# Altium footprint library 14.Pads.PcbLib: 28 footprints (part 2 of 2)
Each footprint in its own frame and in the unit in brackets; x right, y up, seen from the top. Pads: shape width x height; smd on the part's side, far side on the other; paste and mask are expansions set on the pad; w line width, h text height; cw(c..) or ccw(c..) is an arc to the next point about the centre after c.
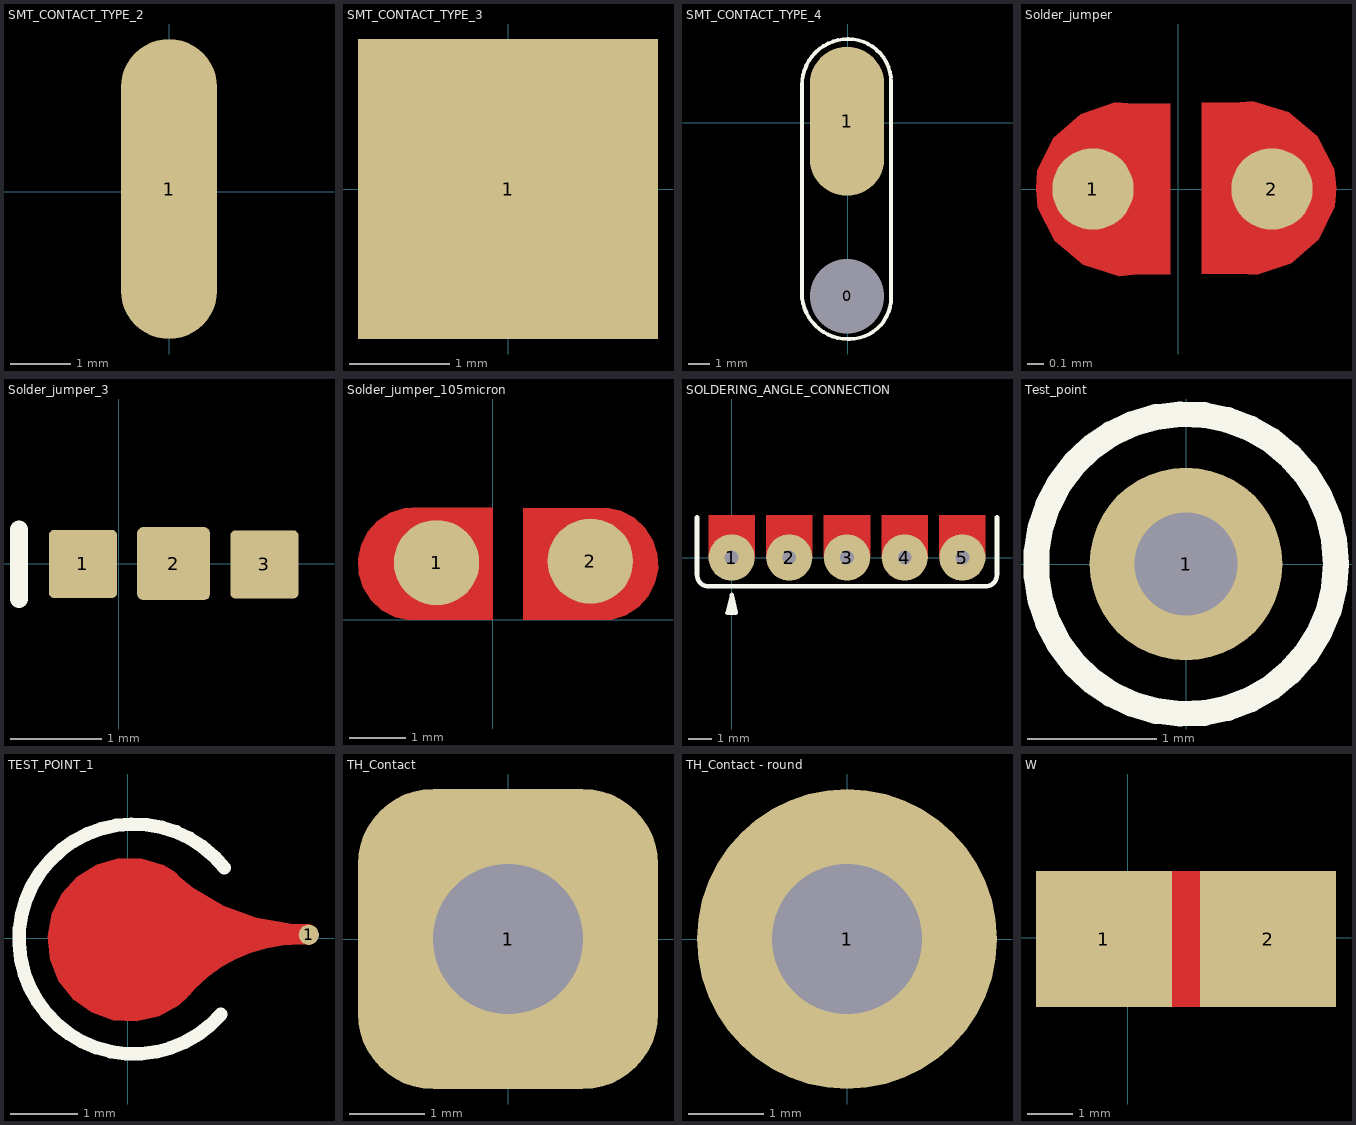
[diagram p1: the footprints below, top view; thin cyan lines are the x and y axes]

## SMT_CONTACT_TYPE_2 [mm]
pads (1):
  oval 1.6x5 smd: 1(0,0.05)

## SMT_CONTACT_TYPE_3 [mm]
pads (1):
  rect 3x3 smd: 1(0,0)

## SMT_CONTACT_TYPE_4 [mm]
pads (2):
  round 0.9 hole 3.5: 0(-0.043,-8.152)
  oval 3.5x7 smd: 1(-0.043,0.071)
Top Overlay:
  lines w0.18: -2.159,-8.255 -2.159,1.769 cw(c0.009,1.769) 0.009,3.937 cw(c0.009,1.914) 2.032,1.914 2.032,-8.214 cw(c0.086,-8.214) 0.086,-10.16 -0.009,-10.16 cw(c-0.009,-8.01) -2.159,-8.01

## Solder_jumper [mm]
pads (2):
  rrect100% 0.5x0.5 smd: 1(-0.525,0) 2(0.575,0)
Top Layer:
  region: -0.05,0.525 -0.275,0.525 -0.387,0.532 -0.599,0.461 -0.768,0.313 -0.868,0.112 -0.875,0 -0.865,-0.114 -0.759,-0.318 -0.583,-0.466 -0.364,-0.535 -0.25,-0.525 -0.05,-0.525
  region: 0.144,-0.519 0.369,-0.519 0.481,-0.527 0.693,-0.455 0.862,-0.307 0.961,-0.106 0.969,0.006 0.959,0.12 0.853,0.324 0.677,0.471 0.458,0.541 0.344,0.531 0.144,0.531
Top Solder:
  rectangle: -0.125,-0.625 0.225,0.625

## Solder_jumper_3 [mm]
pads (3):
  rrect15% 0.75x0.75 smd mask+0: 1(-0.397,-0.004) 3(1.599,-0.009)
  rrect15% 0.8x0.8 smd mask+0: 2(0.6,0)
Top Overlay:
  lines w0.2: -1.1,-0.387 -1.1,0.375
Top Solder:
  region: -0.79,-0.61 -0.832,-0.61 -0.909,-0.578 -0.968,-0.519 -1,-0.442 -1,-0.4 -1,0.375 -1.002,0.417 -0.975,0.497 -0.918,0.561 -0.842,0.598 -0.8,0.6 1.975,0.6 2.02,0.6 2.102,0.566 2.166,0.502 2.2,0.42 2.2,0.375 2.2,-0.411 2.2,-0.451 2.169,-0.524 2.113,-0.58 2.039,-0.61 2,-0.61
  lines w0.01: -1,-0.4 ccw(c-0.79,-0.4) -0.79,-0.61 -0.775,-0.61 2,-0.61 ccw(c2,-0.41) 2.2,-0.41 2.2,0.375 ccw(c1.975,0.375) 1.975,0.6 -0.775,0.575 -0.8,0.575 ccw(c-0.8,0.375) -1,0.375 -1,-0.4

## Solder_jumper_105micron [mil]
pads (2):
  round 60 smd: 1(-39.37,40.35) 2(68.76,41.34)
Top Layer:
  region: 21.65,0 78.47,0 83.65,0.23 93.55,3.36 102.3,8.94 109.3,16.59 114.09,25.8 116.33,35.93 115.87,46.3 112.74,56.19 107.16,64.94 99.51,71.94 90.3,76.73 80.17,78.97 74.98,78.74 21.65,78.74
  region: 0.09,78.74 -56.73,78.74 -61.91,78.51 -71.81,75.38 -80.55,69.8 -87.56,62.15 -92.34,52.94 -94.58,42.81 -94.12,32.44 -91,22.55 -85.42,13.8 -77.76,6.8 -68.55,2.01 -58.42,-0.23 -53.24,0 0.09,0

## SOLDERING_ANGLE_CONNECTION [mm]
pads (5):
  round 2 hole 0.6: 1(0,0) 2(2.5,0) 3(5,0) 4(7.5,0) 5(10,0)
Top Layer:
  region: 9,0 9,1.825 11,1.825 11,0
  region: 6.5,0 6.5,1.825 8.5,1.825 8.5,0
  region: 4,0 4,1.825 6,1.825 6,0
  region: 1.5,0 1.5,1.825 3.5,1.825 3.5,0
  region: -1,0 -1,1.825 1,1.825 1,0
Top Overlay:
  lines w0.2: -1.5,1.75 -1.5,-0.75 ccw(c-1,-0.75) -1,-1.25 11,-1.25 ccw(c11,-0.75) 11.5,-0.75 11.5,1.75 ; 0,-2.007 0.051,-2.311 ; 0,-1.702 -0.178,-2.388 0.178,-2.388 0,-1.626

## Test_point [mm]
pads (1):
  round 1.5 hole 0.8: 1(0,0)
Top Overlay:
  circle w0.2: c0,0 r1.166
3D body "User Library-TEST POINT.step": height 4.36, standoff -2.57, extent -1.27,-1.315 1.27,1.318

## TEST_POINT_1 [mm]
pads (1):
  round 0.3 smd: 1(2.675,0.05)
Top Layer:
  region: 0.874,-0.87 0.754,-0.99 0.456,-1.155 0.125,-1.23 -0.214,-1.21 -0.535,-1.097 -0.811,-0.899 -1.022,-0.633 -1.15,-0.318 -1.187,0.02 -1.128,0.354 -0.978,0.659 -0.75,0.911 -0.46,1.089 -0.133,1.181 0.207,1.177 0.532,1.08 0.675,0.988 0.688,0.981 0.712,0.963 0.733,0.942 0.751,0.918 0.757,0.905 0.758,0.905 0.962,0.744 1.41,0.481 1.898,0.301 2.411,0.213 2.671,0.203 2.691,0.203 2.728,0.188 2.756,0.16 2.771,0.123 2.771,0.103 2.771,0.097 2.77,0.085 2.767,0.074 2.763,0.062 2.76,0.057 2.764,0.051 2.77,0.038 2.774,0.025 2.776,0.011 2.776,0.003 2.776,-0.017 2.759,-0.056 2.729,-0.084 2.69,-0.098 2.669,-0.097 2.545,-0.092 2.297,-0.104 2.053,-0.145 1.814,-0.215 1.586,-0.311 1.37,-0.433 1.17,-0.579 0.988,-0.748 0.904,-0.84 0.902,-0.842 0.898,-0.847 0.893,-0.851 0.888,-0.855 0.885,-0.857 0.884,-0.858 0.881,-0.862 0.878,-0.865 0.875,-0.869
Top Overlay:
  lines w0.2: 1.375,-1.125 cw(c0.09,-0.012) 1.427,1.039
Top Solder:
  region: 1.041,-0.895 0.929,-1.021 0.653,-1.212 0.34,-1.331 0.007,-1.373 -0.326,-1.334 -0.641,-1.217 -0.918,-1.028 -1.143,-0.778 -1.301,-0.483 -1.385,-0.157 -1.388,0.178 -1.312,0.505 -1.16,0.804 -0.94,1.058 -0.667,1.253 -0.355,1.377 -0.023,1.423 0.311,1.388 0.627,1.275 0.907,1.09 1.021,0.967 1.189,0.817 1.566,0.569 1.983,0.398 2.425,0.311 2.65,0.3 2.68,0.3 2.735,0.277 2.777,0.235 2.8,0.18 2.8,0.15 2.8,0.131 2.791,0.094 2.772,0.061 2.746,0.033 2.73,0.023 2.745,0.012 2.77,-0.015 2.788,-0.048 2.797,-0.084 2.797,-0.102 2.794,-0.124 2.773,-0.163 2.739,-0.19 2.697,-0.202 2.675,-0.2 2.45,-0.216 2.01,-0.31 1.595,-0.485 1.221,-0.734 1.053,-0.884 1.052,-0.886 1.049,-0.889 1.045,-0.891 1.042,-0.894

## TH_Сontact [mm]
pads (1):
  rrect50% 4x4 hole 2: 1(0,0)

## TH_Сontact - round [mm]
pads (1):
  round 4 hole 2: 1(0,0)

## W [mm]
pads (2):
  rect 3x3 smd: 1(-0.525,-0.025) 2(3.1,-0.025)
Top Layer:
  rectangle: 0.55,-1.525 1.95,1.475